# Altium footprint library PCB - LEADED - SOIC - MONOLITHIC POWER SOIC-8.PcbLib: 1 footprints
Each footprint in its own frame and in the unit in brackets; x right, y up, seen from the top. Pads: shape width x height; smd on the part's side, far side on the other; paste and mask are expansions set on the pad; w line width, h text height; cw(c..) or ccw(c..) is an arc to the next point about the centre after c.
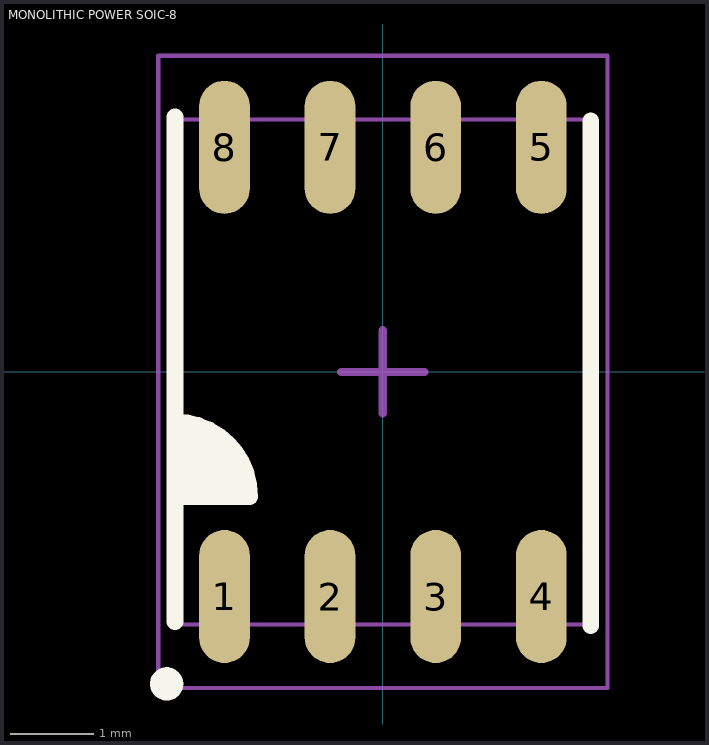
[diagram p0: the footprint, top view; thin cyan lines are the x and y axes]

## MONOLITHIC POWER SOIC-8 [mm] "Description  Boost, Flyback, Forward Converter, SEPIC Switching Regulator IC Positive or Negative, Isolation Capable Adjustable -0.5V 1 Output 4A, 1.27mm Pitch, 4.9x3.9 mm Body, SOIC8E Package"
height 1.7
pads (8):
  oval 0.61x1.6 smd: 1(-1.905,-2.7) 2(-0.635,-2.7) 3(0.635,-2.7) 4(1.905,-2.7) 5(1.905,2.7) 6(0.635,2.7) 7(-0.635,2.7) 8(-1.905,2.7)
Top Overlay:
  circle w0.2: c-2.6,-3.75 r0.1
  region: -2.5,-0.6 -1.8,-0.9 -1.6,-1.5 -2.5,-1.5
  lines w0.2: -2.5,-3 -2.5,3.07 ; -2.5,-1.5 -1.6,-1.5 ccw(c-2.5,-1.5) -2.5,-0.6 ; 2.5,-3.05 2.5,3.02
Mechanical 13:
  lines w0.05: -2.45,-3.035 -2.45,3.035 2.45,3.035 2.45,-3.035 -2.45,-3.035
Mechanical 15:
  lines w0.05: -2.7,-3.8 2.7,-3.8 2.7,3.8 -2.7,3.8 -2.7,-3.8
Mechanical 2 (Mech9):
  lines w0.1: -0.5,0 0,0 ; 0,-0.5 0,0 ; 0,0.5 0,0 ; 0.5,0 0,0
3D body "Monolithic Power - SOIC-8 v3.step": height 1.7, standoff 0, extent -2.45,-3.035 2.45,3.035